# EAGLE library part WE-VEA_0508 (library WE-VEA)
WE-VEA ESD Suppressor-Array Characteristics Fast response time (1 ns) Low signal insertion loss No leakage current Low clamping voltage Almost no energy consumption in stand-by mode Excellent absorption for ESD-impulses Operating temperature: –40 ºC to +85 ºC Applications Protection of data lines Protection of bus systems Protection of video transmission lines Protection of semiconductors ESD protection in accordance with EN 61000-4-2 <https://katalog.we-online.de/media/images/v2/o14893v209%20Family_WE-VEA.jpg> Details see: https://katalog.we-online.de/en/pbs/WE-VEA Updated by Ella Wu 2019-07-04 2019 (C) Wurth Elektronik
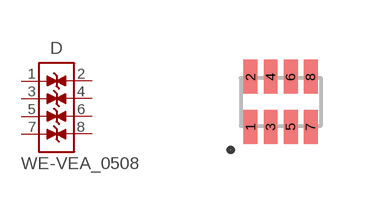
[diagram p0: symbol with the pads of WE-VEA_0508; footprint WE-VEA_0508]

Designator prefix D

## WE-VEA_0508_82380050100 (CHANNELS: 4; DATASHEET-URL: https://katalog.we-online.de/pbs/datasheet/82380050100.pdf; ILEAK: 0.1uA; MOUNT: SMT; PART-NUMBER: 82380050100; RISO: 10 MOhm; VALUE: 5V)  [WE-VEA_0508]
1  1  pas
2  8  pas
3  2  pas
4  7  pas
5  3  pas
6  6  pas
7  4  pas
8  5  pas

## Footprint WE-VEA_0508 (pad centres in mm)
WE-VEA ESD Suppressor-Array Size : 0508
smd 0.35 x 0.85: 1 -0.75,-0.625; 2 -0.75,0.625; 3 -0.25,-0.625; 4 -0.25,0.625; 5 0.25,-0.625; 6 0.25,0.625; 7 0.75,-0.625; 8 0.75,0.625